# EAGLE library part ISP_POGOBED_S19_501 (library PR_Parts_Library)
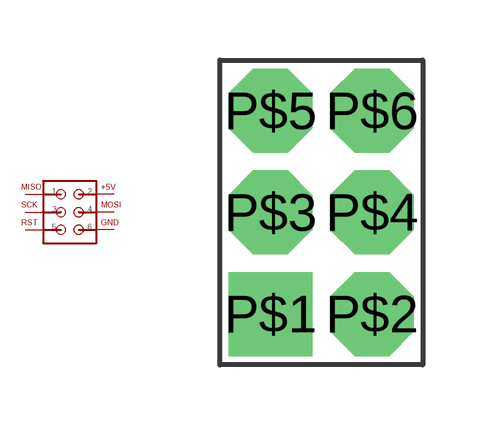
[diagram p11: symbol with the pads of ISP_POGOBED_S19_501; footprint ISP_POGOBED_S19_501]

Designator prefix -

## ISP_POGOBED_S19_501  [ISP_POGOBED_S19_501]
P$1  P$1
P$2  P$2
P$3  P$3
P$4  P$4
P$5  P$5
P$6  P$6

## Footprint ISP_POGOBED_S19_501 (pad centres in mm)
drill 1.4 square: P$1 -1.27,-2.54
drill 1.4 octagon: P$2 1.27,-2.54; P$3 -1.27,0; P$4 1.27,0; P$5 -1.27,2.54; P$6 1.27,2.54